# EAGLE library part ADE7753 (library chips_old)
Single-Phase Multifunction Metering IC
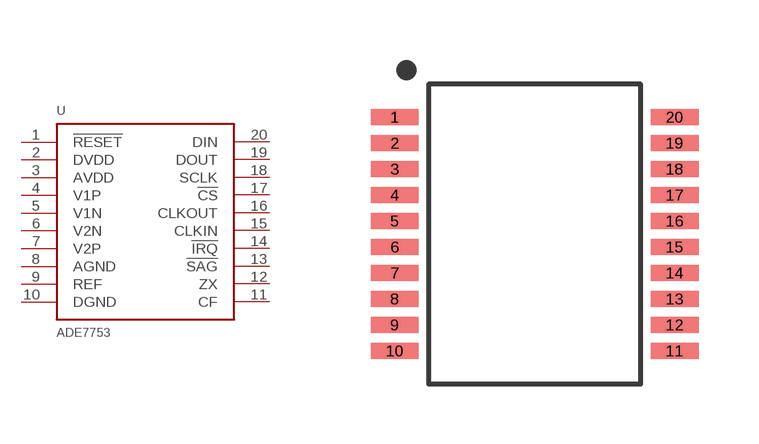
[diagram p9: symbol with the pads of SSOP-20; footprint SSOP-20]

Designator prefix U

## ADE7753ARS (DIGIKEY: ADE7753ARSZRLCT-ND; MOUSER: 584-ADE7753ARSZR; NEWARK: 59K0984)  [SSOP-20]
1  !RESET
2  DVDD
3  AVDD
4  V1P
5  V1N
6  V2N
7  V2P
8  AGND
9  REF
10  DGND
11  CF
12  ZX
13  !SAG
14  !IRQ
15  CLKIN
16  CLKOUT
17  !CS
18  SCLK
19  DOUT
20  DIN

## Footprint SSOP-20 (pad centres in mm)
smd 1.2 x 0.4: 1 -3.5,2.925; 2 -3.5,2.275; 3 -3.5,1.625; 4 -3.5,0.975; 5 -3.5,0.325; 6 -3.5,-0.325; 7 -3.5,-0.975; 8 -3.5,-1.625; 9 -3.5,-2.275; 10 -3.5,-2.925; 11 3.5,-2.925; 12 3.5,-2.275; 13 3.5,-1.625; 14 3.5,-0.975; 15 3.5,-0.325; 16 3.5,0.325; 17 3.5,0.975; 18 3.5,1.625; 19 3.5,2.275; 20 3.5,2.925